# EAGLE library part 0475900001 (library USB connector)
CONN RCPT MICRO USB AB 5P SMD RA Manufacturer's datasheet <https://www.molex.com/pdm_docs/sd/475900001_sd.pdf>
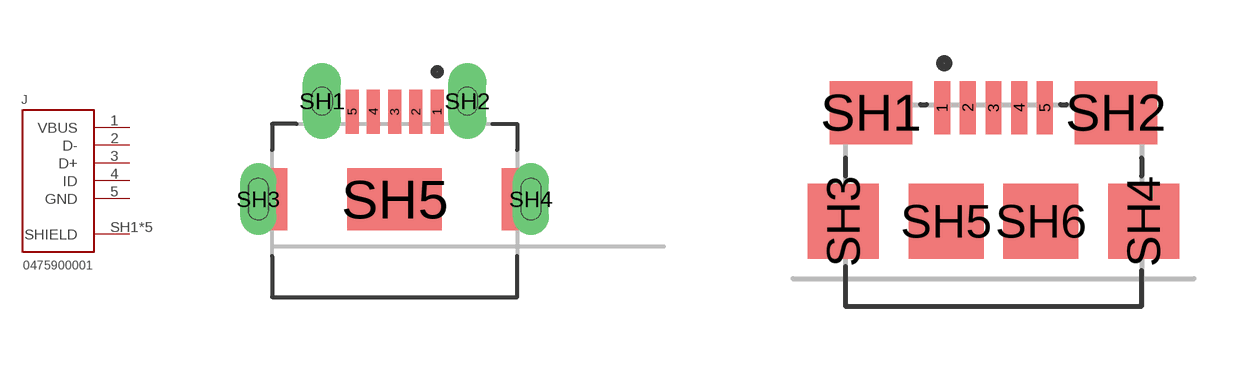
[diagram p0: symbol with the pads of 0475900001; footprints 0475900001, 10118192-0002LF]

Designator prefix J

## 0475900001 (CREATED_BY: PCBLayout.com; DIGIKEY_PARTNO: WM17144TR-ND; MANUFACTURER: Molex; MPN: 0475900001)  [0475900001]
1  VBUS  pas
2  D-  pas
3  D+  pas
4  ID  pas
5  GND  pas
SH1  SHIELD  pwr
SH2  SHIELD  pwr
SH3  SHIELD  pwr
SH4  SHIELD  pwr
SH5  SHIELD  pwr

## 0475900001SMT  [10118192-0002LF]

## Footprint 0475900001 (pad centres in mm)
smd 0.4 x 1.35: 1 1.3,2.675; 2 0.65,2.675; 3 0,2.675; 4 -0.65,2.675; 5 -1.3,2.675
drill 0.65 pad 0.85 long: SH1 -2.225,3; SH2 2.225,3
drill 0.6 pad 0.8 long: SH3 -4.175,0; SH4 4.175,0
smd 2.9 x 1.9: SH5 0,0

## Footprint 10118192-0002LF (pad centres in mm)
smd 0.4 x 1.35: 1 -1.3,2.875; 2 -0.65,2.875; 3 0,2.875; 4 0.65,2.875; 5 1.3,2.875
smd 2.1 x 1.6: SH1 -3.1,2.75; SH2 3.1,2.75
smd 1.8 x 1.9: SH3 -3.8,0; SH4 3.8,0
smd 1.9 x 1.9: SH5 -1.2,0; SH6 1.2,0